# EAGLE library part AM1037A (library DROID)
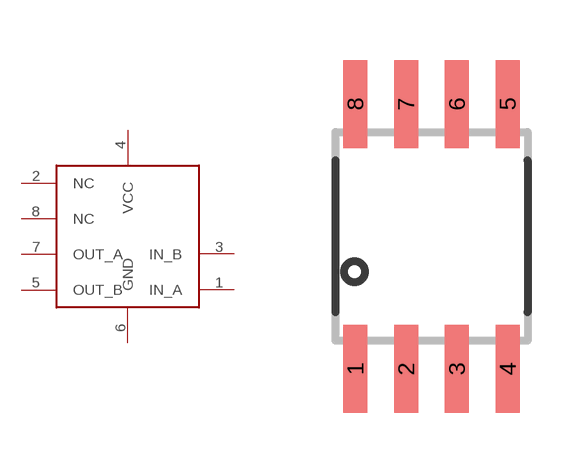
[diagram p0: symbol with the pads of SOIC8_208MIL; footprint SOIC8_208MIL]

Designator prefix -

## AM1037A  [SOIC8_208MIL]
1  IN_A  in
2  NC  nc
3  IN_B  in
4  VCC  pwr
5  OUT_B  out
6  GND  pwr
7  OUT_A  out
8  NC  nc

## Footprint SOIC8_208MIL (pad centres in mm)
Small Outline IC - 208mil Wide
smd 0.6 x 2.2: 1 -1.905,-3.315; 2 -0.635,-3.315; 3 0.635,-3.315; 4 1.905,-3.315; 5 1.905,3.315; 6 0.635,3.315; 7 -0.635,3.315; 8 -1.905,3.315